# Altium footprint library Sangjian_Pcb.PcbLib: 434 footprints (part 28 of 28)
Each footprint in its own frame and in the unit in brackets; x right, y up, seen from the top. Pads: shape width x height; smd on the part's side, far side on the other; paste and mask are expansions set on the pad; w line width, h text height; cw(c..) or ccw(c..) is an arc to the next point about the centre after c.
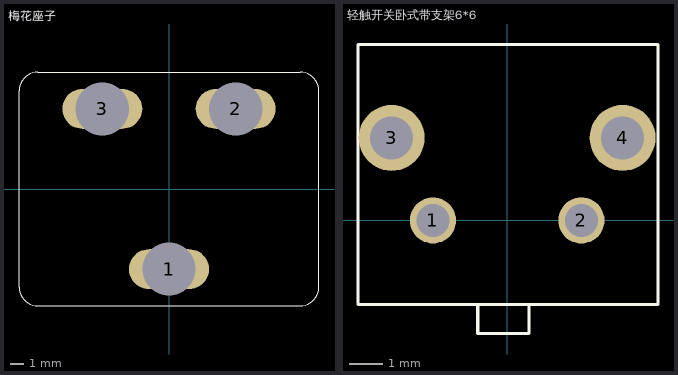
[diagram p27: the footprints below, top view; thin cyan lines are the x and y axes]

## 梅花座子 [mm]
pads (3):
  oval 6x3 hole 4 square: 1(0,-6.007) 2(5.004,6.007) 3(-5.004,6.007)
Top Overlay:
  lines w0.01: -9.83,8.776 ccw(c-9.817,7.341) -11.252,7.353 -11.252,-7.353 ccw(c-9.817,-7.341) -9.83,-8.776 0,-8.776 2.311,-8.776 9.83,-8.776 ccw(c9.817,-7.341) 11.252,-7.353 11.252,7.353 ccw(c9.817,7.341) 9.83,8.776 ; -9.83,8.776 0,8.776 ; -9.83,8.776 0,8.776 ; 0,8.776 9.83,8.776 ; 0,8.776 2.083,8.776 9.83,8.776

## 轻触开关卧式带支架6*6 [mm]
pads (4):
  round 1.4 hole 1: 1(-2.25,0) 2(2.25,0)
  round 2 hole 1.3: 3(-3.5,2.5) 4(3.5,2.5)
Top Overlay:
  lines w0.1: -4.521,-2.54 -4.521,5.334 4.572,5.334 4.572,-2.55 -4.5,-2.55 ; -0.889,-3.429 -0.889,-2.591 ; -0.864,-3.429 0.66,-3.429 0.66,-2.591